# Altium footprint library SnapEDApcb.PcbLib: 1 footprints
Each footprint in its own frame and in the unit in brackets; x right, y up, seen from the top. Pads: shape width x height; smd on the part's side, far side on the other; paste and mask are expansions set on the pad; w line width, h text height; cw(c..) or ccw(c..) is an arc to the next point about the centre after c.
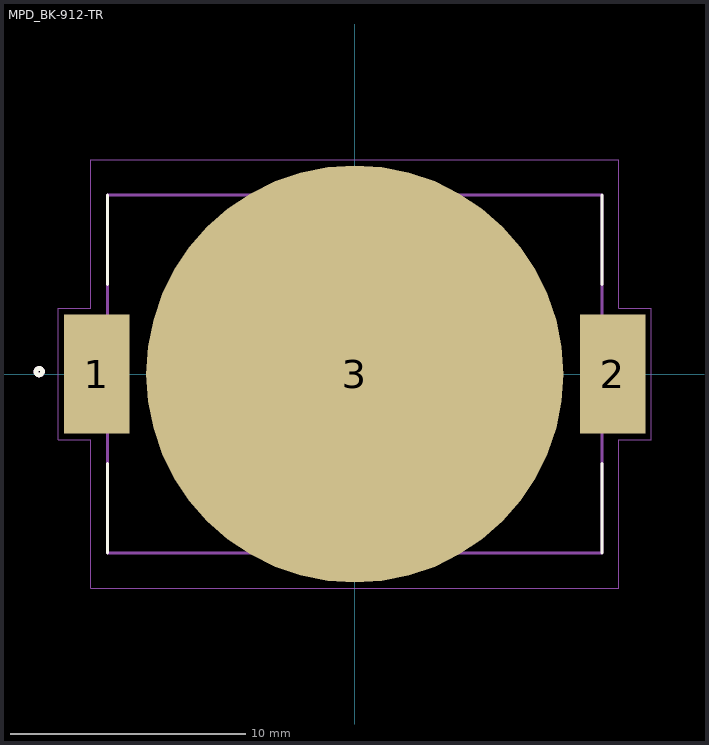
[diagram p0: the footprint, top view; thin cyan lines are the x and y axes]

## MPD_BK-912-TR [mm]
height 25.4
pads (3):
  rect 2.79x5.08 smd: 1(-10.985,0) 2(10.985,0)
  round 17.78 smd: 3(0,0)
Top Overlay:
  circle w0.2: c-13.45,0.1 r0.141
  lines w0.127: -10.54,-7.62 -10.54,-3.81 ; -10.54,3.81 -10.54,7.62 ; 10.54,-7.62 10.54,-3.81 ; 10.54,3.81 10.54,7.62
Mechanical 13:
  circle w0.2: c-13.45,0.1 r0.141
  lines w0.127: -10.54,-7.62 10.54,-7.62 10.54,7.62 -10.54,7.62 -10.54,-7.62
Mechanical 15:
  lines w0.05: -12.625,-2.8 -11.25,-2.8 -11.25,-9.14 11.25,-9.14 11.25,-2.8 12.625,-2.8 12.625,2.8 11.25,2.8 11.25,9.14 -11.25,9.14 -11.25,2.8 -12.625,2.8 -12.625,-2.8
3D body "BK-912-TR.STEP": height 4.32, standoff 0, extent -11.43,-7.62 11.43,7.797